# Altium schematic symbol library 691 213 500 0xx.SchLib: 3 symbols
Pins are listed as number, name and electrical type; pins without a type are passive.

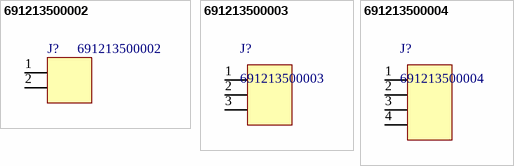
[diagram p0: symbols 691213500002 to 691213500004]

## 691213500002
designator J?
WR-TBL Vertical Cable Entry With Rising Cage Clamp,Serie 2135 - 5.08 mm; Manufacturer: Wurth Elektronik; ComponentLink1 Description: Manufacturer; ComponentLink2 Description: Datasheet; ComponentLink1URL: http://www.we-online.de; ComponentLink2URL: http://katalog.we-online.de/em/datasheet/6912135000XX.pdf; Created by: Baojun Chen; Created Date: 8.Sep.2015; partNo: 691213500002; Value: 691213500002
footprint 691213500002 (Serie 2135 - 5.08 mm _ 2 pins)
pins: 1, 2

## 691213500003
designator J?
WR-TBL Vertical Cable Entry With Rising Cage Clamp,Serie 2135 - 5.08 mm; Manufacturer: Wurth Elektronik; ComponentLink1 Description: Manufacturer; ComponentLink2 Description: Datasheet; ComponentLink1URL: http://www.we-online.de; ComponentLink2URL: http://katalog.we-online.de/em/datasheet/6912135000XX.pdf; Created by: Baojun Chen; Created Date: 8.Sep.2015; partNo: 691213500003; Value: 691213500003
footprint 691213500003 (Serie 2135 - 5.08 mm_ 3 pins)
pins: 1, 2, 3

## 691213500004
designator J?
WR-TBL Vertical Cable Entry With Rising Cage Clamp,Serie 2135 - 5.08 mm; Manufacturer: Wurth Elektronik; ComponentLink1 Description: Manufacturer; ComponentLink2 Description: Datasheet; ComponentLink1URL: http://www.we-online.de; ComponentLink2URL: http://katalog.we-online.de/em/datasheet/6912135000XX.pdf; Created by: Baojun Chen; Created Date: 8.Sep.2015; partNo: 691213500004; Value: 691213500004
footprint 691213500004 (Serie 2135 - 5.08 mm_ 4 pins)
pins: 1, 2, 3, 4